# Altium schematic symbol library Conn_Amphenol_D38999-26WD19SN_eec.SchLib: 1 symbol
Pins are listed as number, name and electrical type; pins without a type are passive.

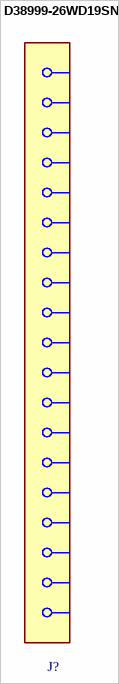
[diagram p0: symbol D38999-26WD19SN]

## D38999-26WD19SN
designator J?  (value not drawn)